# EAGLE library part ACS711LC (library iddproject)
ACS711 Hall Effect Sensor http://www.digikey.com/product-detail/en/ACS711ELCTR-25AB-T/620-1371-1-ND/2470595
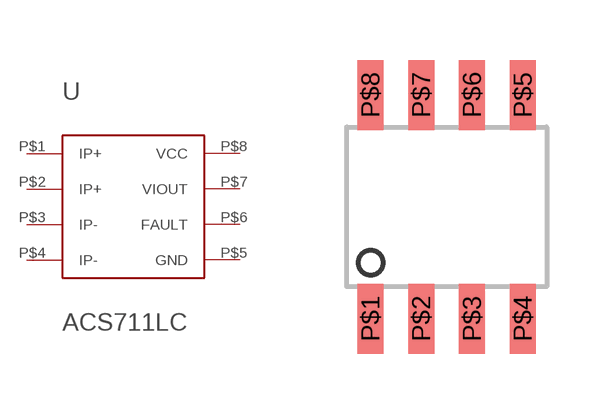
[diagram p1: symbol with the pads of ACS711; footprint ACS711]

Designator prefix U

## ACS711LC  [ACS711]
P$1  IP+
P$2  IP+
P$3  IP-
P$4  IP-
P$5  GND  pwr
P$6  FAULT
P$7  VIOUT
P$8  VCC  pwr

## Footprint ACS711 (pad centres in mm)
smd 0.65 x 1.75: P$1 -1.905,-2.8; P$2 -0.635,-2.8; P$3 0.635,-2.8; P$4 1.905,-2.8; P$5 1.905,2.8; P$6 0.635,2.8; P$7 -0.635,2.8; P$8 -1.905,2.8